# Altium footprint library SM_QFN-24Pin-EP_New.PcbLib: 1 footprints
Each footprint in its own frame and in the unit in brackets; x right, y up, seen from the top. Pads: shape width x height; smd on the part's side, far side on the other; paste and mask are expansions set on the pad; w line width, h text height; cw(c..) or ccw(c..) is an arc to the next point about the centre after c.
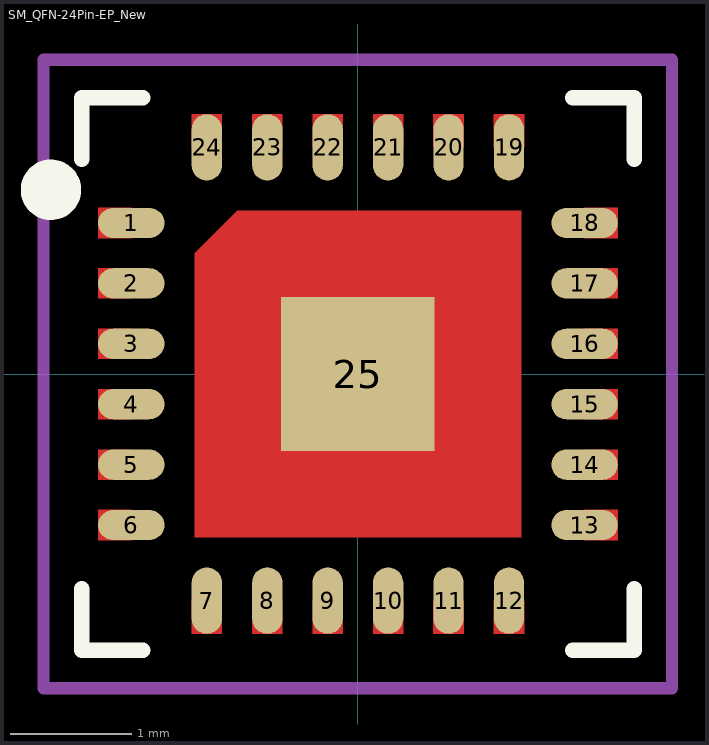
[diagram p0: the footprint, top view; thin cyan lines are the x and y axes]

## SM_QFN-24Pin-EP_New [mm] "24-QFN Exposed Pad"
pads (25):
  rrect100% 0.55x0.25 smd mask+0.076: 1(-1.875,1.25) 2(-1.875,0.75) 3(-1.875,0.25) 4(-1.875,-0.25) 5(-1.875,-0.75) 6(-1.875,-1.25) 13(1.875,-1.25) 14(1.875,-0.75) 15(1.875,-0.25) 16(1.875,0.25) 17(1.875,0.75) 18(1.875,1.25)
  rrect100% 0.25x0.55 smd mask+0.076: 7(-1.25,-1.875) 8(-0.75,-1.875) 9(-0.25,-1.875) 10(0.25,-1.875) 11(0.75,-1.875) 12(1.25,-1.875) 19(1.25,1.875) 20(0.75,1.875) 21(0.25,1.875) 22(-0.25,1.875) 23(-0.75,1.875) 24(-1.25,1.875)
  rect 1.27x1.27 smd paste-2.515: 25(0,0)
Top Layer:
  region: -0.625,-1.875 -0.875,-1.875 -0.875,-2.15 -0.625,-2.15
  region: -0.125,-1.875 -0.375,-1.875 -0.375,-2.15 -0.125,-2.15
  region: 0.375,-1.875 0.125,-1.875 0.125,-2.15 0.375,-2.15
  region: 0.875,-1.875 0.625,-1.875 0.625,-2.15 0.875,-2.15
  region: 1.375,-1.875 1.125,-1.875 1.125,-2.15 1.375,-2.15
  region: -1.125,-1.875 -1.375,-1.875 -1.375,-2.15 -1.125,-2.15
  region: -1.875,0.625 -1.875,0.875 -2.15,0.875 -2.15,0.625
  region: -1.875,0.125 -1.875,0.375 -2.15,0.375 -2.15,0.125
  region: -1.875,-0.375 -1.875,-0.125 -2.15,-0.125 -2.15,-0.375
  region: -1.875,-0.875 -1.875,-0.625 -2.15,-0.625 -2.15,-0.875
  region: -1.875,-1.375 -1.875,-1.125 -2.15,-1.125 -2.15,-1.375
  region: -1.875,1.125 -1.875,1.375 -2.15,1.375 -2.15,1.125
  region: 0.625,1.875 0.875,1.875 0.875,2.15 0.625,2.15
  region: 0.125,1.875 0.375,1.875 0.375,2.15 0.125,2.15
  region: -0.375,1.875 -0.125,1.875 -0.125,2.15 -0.375,2.15
  region: -0.875,1.875 -0.625,1.875 -0.625,2.15 -0.875,2.15
  region: -1.375,1.875 -1.125,1.875 -1.125,2.15 -1.375,2.15
  region: 1.125,1.875 1.375,1.875 1.375,2.15 1.125,2.15
  region: 1.875,-1.125 1.875,-1.375 2.15,-1.375 2.15,-1.125
  region: 1.875,1.375 1.875,1.125 2.15,1.125 2.15,1.375
  region: 1.875,0.875 1.875,0.625 2.15,0.625 2.15,0.875
  region: 1.875,0.375 1.875,0.125 2.15,0.125 2.15,0.375
  region: 1.875,-0.125 1.875,-0.375 2.15,-0.375 2.15,-0.125
  region: -1.35,-1.35 1.35,-1.35 1.35,1.35 -1,1.35 -1.35,1
  region: 1.875,-0.625 1.875,-0.875 2.15,-0.875 2.15,-0.625
Top Overlay:
  circle w0.25: c-2.54,1.524 r0.125
  lines w0.127: -2.286,-1.778 -2.286,-2.286 -1.778,-2.286 ; -2.286,1.778 -2.286,2.286 -1.778,2.286 ; 1.778,-2.286 2.286,-2.286 2.286,-1.778 ; 1.778,2.286 2.286,2.286 2.286,1.778
Top Paste:
  rectangle: -0.325,-0.325 0.325,0.325
  rectangle: 0.525,-0.325 1.175,0.325
  rectangle: -1.175,-0.325 -0.525,0.325
  rectangle: -1.175,0.525 -0.525,1.175
  rectangle: 0.525,0.525 1.175,1.175
  rectangle: -0.325,0.525 0.325,1.175
  rectangle: -1.175,-1.175 -0.525,-0.525
  rectangle: 0.525,-1.175 1.175,-0.525
  rectangle: -0.325,-1.175 0.325,-0.525
Mechanical 15:
  lines w0.1: -0.5,0 0.5,0 ; 0,-0.5 0,0.5 ; -2.6,-2.6 2.6,-2.6 2.6,2.6 -2.6,2.6 -2.6,-2.6
3D body: height 0.95, standoff 0, extent -2.05,-2.05 2.05,2.05